# EAGLE library part 6130091? (library wurth-pin-socket-headers)
(9) 2.54mm Pin Header Description MATERIAL INSULATOR: PBT FLAMABILITY RATING: UL94-V0 COLOR: BLACK CONTACT MATERIAL: COPPER ALLOY CONTACT TYPE: STAMPED CONTACT PLATING: GOLD QUALITY CLASS: 3 AS PER CECC 75 301-802 PITCH: 2.54MM ENVIRONMENTAL OPERATING TEMPERATURE: -40 UP TO 125°C COMPLIANCE: LEAD FREE AND ROHS ELECTRICAL CURRENT RATING: 3A WORKING VOLTAGE: 250V AC INSULATOR RESISTANCE: >1000 MOHM DIELECTRIC WITHSTANDING VOLTAGE: 500V AC/MN CONTACT RESISTANCE: 20 mOHM MAX DIMENSION B = 2.54 x NB POSITIONS How to order Type Header/Socket Number of Positions Variation 613 = 2.54mm Pitch from 1 to 40 1121 = Pin Header Straigh Post 1021 = Pin Header Right Angle 1821 = Socket Header Straigh Post 43121 = Socket Header Right Angle Ref: Datasheet <http://katalog.we-online.de/em/datasheet/6130xx11121.pdf> , Datasheet <http://katalog.we-online.de/em/datasheet/6130xx11021.pdf> , Datasheet <http://katalog.we-online.de/em/datasheet/6130xx11821.pdf> , Datasheet <http://katalog.we-online.de/em/datasheet/6130xx143121.pdf>
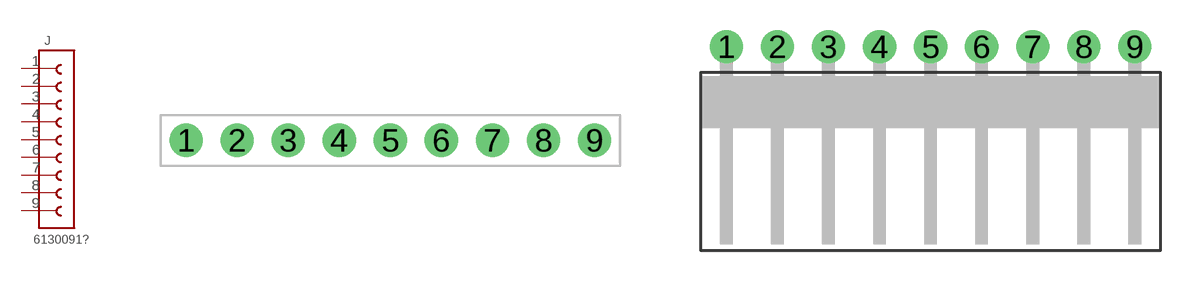
[diagram p3: symbol with the pads of PHSP254P2286X254X1154-9S; footprints PHSP254P2286X254X1154-9S, PHRA254P2286X1004X554-9S]

Designator prefix J

## 61300911121  [PHSP254P2286X254X1154-9S]
1  1  pas
2  2  pas
3  3  pas
4  4  pas
5  5  pas
6  6  pas
7  7  pas
8  8  pas
9  9  pas

## 61300911021  [PHRA254P2286X1004X554-9S]
Pads as for PHSP254P2286X254X1154-9S

## 613009143121  [SHRA254P2336X1000X250-9S]
Pads as for PHSP254P2286X254X1154-9S

## 61300911821  [SHSP254P2336X250X850-9S]
Pads as for PHSP254P2286X254X1154-9S

## Footprint PHSP254P2286X254X1154-9S (pad centres in mm)
9 Pin Header Straight Post 2.54Pitch 22.86mm L x 2.54mm W x 11.54mm H ----------------------------------------------
drill 1.1: 1 0,0; 2 2.54,0; 3 5.08,0; 4 7.62,0; 5 10.16,0; 6 12.7,0; 7 15.24,0; 8 17.78,0; 9 20.32,0

## Footprint PHRA254P2286X1004X554-9S (pad centres in mm)
9 Pin Header Right Angle 2.54Pitch 22.86mm L x 10.04mm W x 5.54mm H ----------------------------------------------
drill 1.1: 1 0,0; 2 2.54,0; 3 5.08,0; 4 7.62,0; 5 10.16,0; 6 12.7,0; 7 15.24,0; 8 17.78,0; 9 20.32,0

## Footprint SHRA254P2336X1000X250-9S (pad centres in mm)
9 Socket Header Right Angle 2.54Pitch 23.36mm L x 10.0mm W x 2.5mm H ----------------------------------------------
drill 1.02: 1 0,0; 2 2.54,0; 3 5.08,0; 4 7.62,0; 5 10.16,0; 6 12.7,0; 7 15.24,0; 8 17.78,0; 9 20.32,0

## Footprint SHSP254P2336X250X850-9S (pad centres in mm)
9 Socket Header Straight Post 2.54Pitch 23.36mm L x 2.5mm W x 8.5mm H ----------------------------------------------
drill 1.02: 1 0,0; 2 2.54,0; 3 5.08,0; 4 7.62,0; 5 10.16,0; 6 12.7,0; 7 15.24,0; 8 17.78,0; 9 20.32,0